# Altium integrated library Altera APEX 20KE.IntLib: 235 symbols (part 38 of 49)
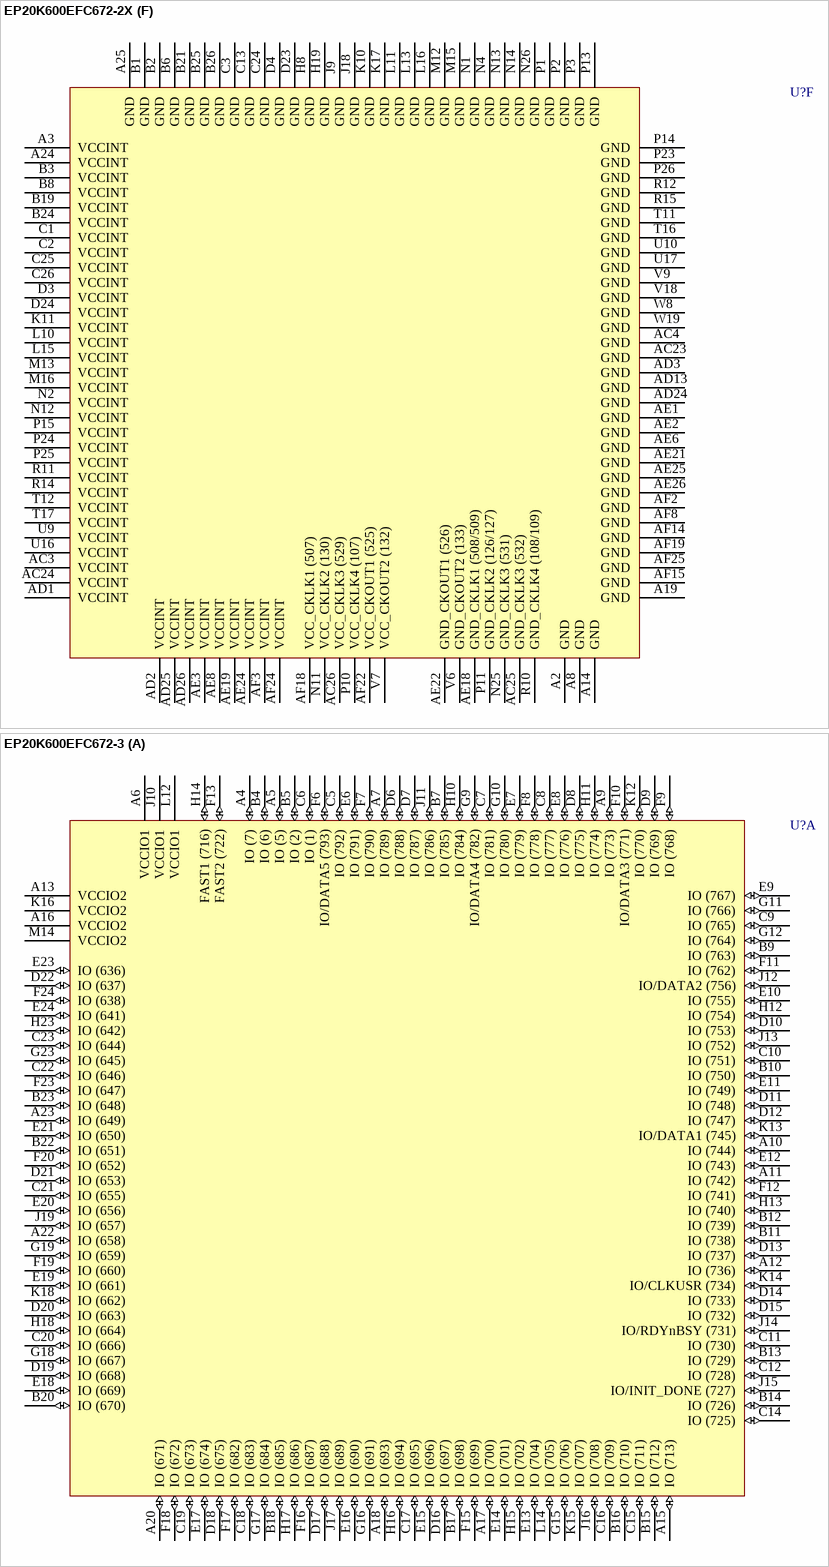
[diagram p436: symbols EP20K600EFC672-2X to EP20K600EFC672-3]

## EP20K600EFC672-3
designator U?
APEX 20K600E PLD, 672-Pin FBGA, Commercial Grade, Speed Grade 3; Published: 17-Jul-2002; LatestRevisionDate: 13-Apr-2006; LatestRevisionNote: IPC-7351 Footprint Added.; DatasheetVersion: Mar-2004; PackageVersion: ver14.1, Oct-2005; PackageReference: FBGA672; Publisher: Altium Limited; PackageDescription: 672-Ball FineLine Ball Grid Array (FBGA672) - Flip Chip; Code_JEDEC: MS-034-AAL-1; ComponentLink1Description: Manufacturer Link; ComponentLink1URL: http://www.altera.com/products/devices/apex/apx-index.html; ComponentLink2Description: Datasheet; ComponentLink2URL: http://www.altera.com/literature/ds/apex.pdf
footprint FBGA672 (BGA, 672-Leads, Body 27x27mm, Pitch 1mm)
3D model EP20K600E-FBGA672T (672-Ball FineLine Ball Grid Array (FBGA672) - Flip Chip)
part A pins: A4 IO (7) (io), A5 IO (5) (io), A6 VCCIO1 (power), A7 IO (789) (io), A9 IO (773) (io), A10 IO (744) (io), A11 IO (742) (io), A12 IO (736) (io), A13 VCCIO2 (power), A15 IO (713) (io), A16 VCCIO2 (power), A17 IO (700) (io), A18 IO (693) (io), A20 IO (671) (io), A22 IO (658) (io), A23 IO (649) (io), B4 IO (6) (io), B5 IO (2) (io), B7 IO (785) (io), B9 IO (763) (io), B10 IO (750) (io), B11 IO (738) (io), B12 IO (739) (io), B13 IO (729) (io), B14 IO (726) (io), B15 IO (712) (io), B16 IO (710) (io), B17 IO (698) (io), B18 IO (685) (io), B20 IO (670) (io), B22 IO (651) (io), B23 IO (648) (io), C5 IO (792) (io), C6 IO (1) (io), C7 IO (781) (io), C8 IO (777) (io), C9 IO (765) (io), C10 IO (751) (io), C11 IO (730) (io), C12 IO (728) (io), C14 IO (725) (io), C15 IO (711) (io), C16 IO (709) (io), C17 IO (695) (io), C18 IO (683) (io), C19 IO (673) (io), C20 IO (666) (io), C21 IO (655) (io), C22 IO (646) (io), C23 IO (644) (io), D6 IO (788) (io), D7 IO (787) (io), D8 IO (775) (io), D9 IO (769) (io), D10 IO (753) (io), D11 IO (748) (io), D12 IO (747) (io), D13 IO (737) (io), D14 IO (733) (io), D15 IO (732) (io), D16 IO (697) (io), D17 IO (688) (io), D18 IO (675) (io), D19 IO (668) (io), D20 IO (663) (io), D21 IO (653) (io), D22 IO (637) (io), E6 IO (791) (io), E7 IO (779) (io), E8 IO (776) (io), E9 IO (767) (io), E10 IO (755) (io), E11 IO (749) (io), E12 IO (743) (io), E13 IO (704) (io), E14 IO (701) (io), E15 IO (696) (io), E16 IO (690) (io), E17 IO (674) (io), E18 IO (669) (io), E19 IO (661) (io), E20 IO (656) (io), E21 IO (650) (io), E23 IO (636) (io), E24 IO (641) (io), F6 IO/DATA5 (793) (io), F7 IO (790) (io), F8 IO (778) (io), F9 IO (768) (io), F10 IO/DATA3 (771) (io), F11 IO (762) (io), F12 IO (741) (io), F13 FAST2 (722) (io), F15 IO (699) (io), F16 IO (687) (io), F17 IO (682) (io), F18 IO (672) (io), F19 IO (660) (io), F20 IO (652) (io), F23 IO (647) (io), F24 IO (638) (io), G9 IO/DATA4 (782) (io), G10 IO (780) (io), G11 IO (766) (io), G12 IO (764) (io), G15 IO (706) (io), G16 IO (691) (io), G17 IO (684) (io), G18 IO (667) (io), G19 IO (659) (io), G23 IO (645) (io), H10 IO (784) (io), H11 IO (774) (io), H12 IO (754) (io), H13 IO (740) (io), H14 FAST1 (716) (io), H15 IO (702) (io), H16 IO (694) (io), H17 IO (686) (io), H18 IO (664) (io), H23 IO (642) (io), J10 VCCIO1 (power), J11 IO (786) (io), J12 IO/DATA2 (756) (io), J13 IO (752) (io), J14 IO/RDYnBSY (731) (io), J15 IO/INIT_DONE (727) (io), J16 IO (708) (io), J17 IO (689) (io), J19 IO (657) (io), K12 IO (770) (io), K13 IO/DATA1 (745) (io), K14 IO/CLKUSR (734) (io), K15 IO (707) (io), K16 VCCIO2 (power), K18 IO (662) (io), L12 VCCIO1 (power), L14 IO (705) (io), M14 VCCIO2 (power)
part B pins: A21 VCCIO3 (power), AA21 IO (408) (io), AA22 IO (447) (io), AA25 IO/LVDSRX01p (539) (io), AA26 IO/LVDSRX01n (540) (io), AB21 IO (415) (io), AB22 IO (421) (io), AB25 IO/LVDSRXINCLK1p (533) (io), AB26 IO/LVDSRXINCLK1n (534) (io), AF20 IO/CLKLK_FB1n (511) (io), AF23 IO/CLKLK_OUT1n (528) (io), D25 IO/LVDSRX16n (587) (io), D26 IO/LVDSRX16p (588) (io), E22 IO (632) (io), E25 IO/LVDSRX15p (584) (io), E26 IO/LVDSRX15n (585) (io), F21 IO (630) (io), F22 IO (623) (io), F25 IO/LVDSRX14n (581) (io), F26 IO/LVDSRX14p (582) (io), G20 IO (625) (io), G21 IO (617) (io), G22 IO (597) (io), G24 IO (610) (io), G25 IO/LVDSRX13p (578) (io), G26 IO/LVDSRX13n (579) (io), H20 IO (599) (io), H21 IO (612) (io), H22 IO (604) (io), H24 IO (586) (io), H25 IO/LVDSRX12n (574) (io), H26 IO/LVDSRX12p (575) (io), J20 IO (593) (io), J21 IO (619) (io), J22 IO (606) (io), J23 IO (535) (io), J24 IO (547) (io), J25 IO/LVDSRX11p (571) (io), J26 IO/LVDSRX11n (572) (io), K19 IO (591) (io), K20 IO (567) (io), K21 IO (554) (io), K22 IO (573) (io), K23 IO (560) (io), K24 IO (580) (io), K25 IO/LVDSRX10n (568) (io), K26 IO/LVDSRX10p (569) (io), L17 VCCIO3 (power), L18 IO/LOCK3 (541) (io), L19 IO (536) (io), L20 IO (482) (io), L21 IO/LOCK1 (501) (io), L22 IO (500) (io), L23 IO (504) (io), L24 IO (505) (io), L25 IO/LVDSRX09p (565) (io), L26 IO/LVDSRX09n (566) (io), M17 IO (484) (io), M18 IO (486) (io), M19 CLK3p (514) (in), M20 IO/CLK3n (513) (io), M21 IO (494) (io), M22 IO (497) (io), M23 IO (499) (io), M24 IO (495) (io), M25 IO/LVDSRX08n (561) (io), M26 IO/LVDSRX08p (562) (io), N15 VCCIO3 (power), N16 IO (462) (io), N17 IO (469) (io), N18 IO (478) (io), N19 IO (480) (io), N22 IO (481) (io), N23 IO (506) (io), N24 VCCIO4 (power), P17 IO (456) (io), P18 IO (468) (io), P19 IO/CLK1n (515) (io), P20 CLK1p (520) (in), P22 IO (475) (io), R16 VCCIO4 (power), R17 IO (452) (io), R18 IO (458) (io), R19 IO (466) (io), R20 IO (474) (io), R21 IO (472) (io), R22 IO (498) (io), R23 IO (488) (io), R24 IO (492) (io), R25 IO/LVDSRX07p (558) (io), R26 IO/LVDSRX07n (559) (io), T18 IO (428) (io), T19 IO (454) (io), T20 IO (460) (io), T21 IO (471) (io), T22 IO (485) (io), T23 IO (487) (io), T24 IO (493) (io), T25 IO/LVDSRX06n (555) (io), T26 IO/LVDSRX06p (556) (io), U18 VCCIO4 (power), U19 IO (417) (io), U20 IO (449) (io), U21 IO (455) (io), U22 IO (473) (io), U23 IO (479) (io), U24 IO (491) (io), U25 IO/LVDSRX05p (552) (io), U26 IO/LVDSRX05n (553) (io), V19 IO (423) (io), V20 IO (434) (io), V21 IO (436) (io), V22 IO (465) (io), V23 IO (467) (io), V24 IO (461) (io), V25 IO/LVDSRX04n (548) (io), V26 IO/LVDSRX04p (549) (io), W21 IO (430) (io), W22 IO (443) (io), W23 IO (453) (io), W24 IO (459) (io), W25 IO/LVDSRX03p (545) (io), W26 IO/LVDSRX03n (546) (io), Y21 IO (441) (io), Y22 IO (410) (io), Y25 IO/LVDSRX02n (542) (io), Y26 IO/LVDSRX02p (543) (io)
part C pins: AA3 IO (252) (io), AA4 IO (241) (io), AA8 IO (270) (io), AA9 IO (267) (io), AA10 IO (286) (io), AA11 IO (291) (io), AA16 IO (355) (io), AA17 IO (369) (io), AA18 IO (374) (io), AA19 IO (382) (io), AA20 IO (394) (io), AA23 IO (403) (io), AA24 IO (404) (io), AB3 IO (248) (io), AB4 IO (240) (io), AB7 IO (256) (io), AB8 IO (260) (io), AB9 IO (276) (io), AB10 IO (289) (io), AB11 IO (287) (io), AB12 IO (304) (io), AB13 IO (340) (io), AB14 IO (342) (io), AB15 IO (349) (io), AB16 IO (352) (io), AB17 IO (366) (io), AB18 IO (371) (io), AB19 IO (391) (io), AB20 IO (390) (io), AB23 IO (405) (io), AB24 IO (395) (io), AC5 IO (242) (io), AC6 IO (259) (io), AC7 IO (263) (io), AC8 IO (271) (io), AC9 IO (278) (io), AC10 IO (290) (io), AC11 IO (344) (io), AC12 IO (336) (io), AC13 IO (334) (io), AC14 IO (337) (io), AC15 IO (347) (io), AC16 IO (357) (io), AC17 IO (359) (io), AC18 IO (375) (io), AC19 IO (388) (io), AC20 IO (392) (io), AC21 IO (397) (io), AC22 IO (396) (io), AD4 IO (251) (io), AD5 IO (254) (io), AD6 IO (255) (io), AD7 IO (264) (io), AD8 IO (273) (io), AD9 IO (285) (io), AD10 IO (338) (io), AD11 IO (311) (io), AD12 IO (312) (io), AD14 IO (330) (io), AD15 IO (332) (io), AD16 IO (333) (io), AD17 IO (335) (io), AD18 IO (345) (io), AD19 IO (354) (io), AD20 IO (370) (io), AD21 IO (383) (io), AD22 IO (385) (io), AD23 IO (393) (io), AE4 IO (246) (io), AE5 IO (253) (io), AE7 IO (266) (io), AE9 IO (292) (io), AE10 IO (299) (io), AE11 IO (309) (io), AE12 IO (314) (io), AE13 IO (316) (io), AE14 IO (329) (io), AE15 IO (331) (io), AE16 IO (368) (io), AE17 IO (378) (io), AF4 IO (249) (io), AF5 IO (261) (io), AF7 IO (268) (io), AF9 IO (294) (io), AF10 IO (305) (io), AF11 IO (297) (io), AF12 IO (315) (io), AF13 VCCIO6 (power), AF16 IO (373) (io), AF17 IO (380) (io), AF21 VCCIO5 (power), R13 VCCIO6 (power), T9 IO (265) (io), T13 IO (302) (io), T14 IO (353) (io), T15 VCCIO5 (power), U11 VCCIO6 (power), U12 IO/LVDSDESKEW (313) (io), U13 IO (307) (io), U14 IO (346) (io), U15 IO (360) (io), V8 IO (262) (io), V10 VCCIO6 (power), V11 IO (288) (io), V12 IO (298) (io), V13 IO (310) (io), V14 IO (341) (io), V15 IO (348) (io), V16 IO (367) (io), V17 VCCIO5 (power), W9 IO (275) (io), W10 IO (277) (io), W11 IO (296) (io), W12 IO (300) (io), W13 IO (308) (io), W14 IO (303) (io), W15 IO (351) (io), W16 IO (358) (io), W17 IO (377) (io), W18 IO (381) (io), W20 IO (386) (io), Y3 IO (250) (io), Y4 IO (245) (io), Y7 IO (257) (io), Y8 IO (272) (io), Y9 IO (274) (io), Y10 IO (279) (io), Y11 IO (293) (io), Y12 IO (301) (io), Y13 FAST4 (320) (io), Y14 FAST3 (326) (io), Y15 IO (343) (io), Y16 IO (356) (io), Y17 IO (372) (io), Y18 IO (379) (io), Y19 IO (384) (io), Y20 IO (389) (io), Y23 IO (399) (io), Y24 IO (400) (io)
part D pins: AA1 IO/LVDSTX14n (186) (io), AA2 IO/LVDSTX14p (187) (io), AA5 IO (224) (io), AA6 IO (230) (io), AA7 IO (235) (io), AB1 IO/LVDSTX15p (189) (io), AB2 IO/LVDSTX15n (190) (io), AB5 IO (222) (io), AB6 IO (237) (io), AC1 IO/LVDSTX16n (192) (io), AC2 IO/LVDSTX16p (193) (io), AF6 VCCIO7 (power), C4 IO (46) (io), D1 IO/LVDSTXINCLK1p (137) (io), D2 IO/LVDSTXINCLK1n (138) (io), D5 IO (31) (io), E1 IO/LVDSTXOUTCLK1n (140) (io), E2 IO/LVDSTXOUTCLK1p (141) (io), E3 IO (13) (io), E4 IO (24) (io), E5 IO (11) (io), F1 IO/LVDSTX01p (144) (io), F2 IO/LVDSTX01n (145) (io), F3 IO (26) (io), F4 IO (20) (io), F5 IO (18) (io), G1 IO/LVDSTX02n (147) (io), G2 IO/LVDSTX02p (148) (io), G3 IO (37) (io), G4 IO (44) (io), G5 IO (33) (io), G6 IO (50) (io), G7 IO (55) (io), G8 IO (39) (io), H1 IO/LVDSTX03p (150) (io), H2 IO/LVDSTX03n (151) (io), H3 IO (64) (io), H4 IO (57) (io), H5 IO (52) (io), H6 IO (58) (io), H7 IO (56) (io), H9 IO (62) (io), J1 IO/LVDSTX04n (153) (io), J2 IO/LVDSTX04p (154) (io), J3 IO (74) (io), J4 IO (68) (io), J5 IO (61) (io), J6 IO (70) (io), J7 IO (72) (io), J8 IO (63) (io), K1 IO/LVDSTX05p (157) (io), K2 IO/LVDSTX05n (158) (io), K3 IO (65) (io), K4 IO (78) (io), K5 IO (69) (io), K6 IO (77) (io), K7 IO (59) (io), K8 IO (75) (io), K9 VCCIO8 (power), L1 IO/LVDSTX06n (160) (io), L2 IO/LVDSTX06p (161) (io), L3 IO (95) (io), L4 IO (94) (io), L5 IO (90) (io), L6 IO (71) (io), L7 IO (85) (io), L8 IO/DATA6 (76) (io), L9 IO (87) (io), M1 IO/LVDSTX07p (163) (io), M2 IO/LVDSTX07n (164) (io), M3 IO (100) (io), M4 IO (111) (io), M5 IO (98) (io), M6 IO (84) (io), M7 IO (88) (io), M8 IO (82) (io), M9 IO/nCS (102) (io), M10 IO/DATA7 (83) (io), M11 VCCIO8 (power), N3 VCCIO8 (power), N5 IO (81) (io), N8 CLK2p (123) (in), N9 IO/CLK2n (118) (io), N10 IO/nRS (96) (io), P4 IO (101) (io), P5 IO (104) (io), P8 IO (91) (io), P9 IO/nWS (89) (io), P12 VCCIO7 (power), R1 IO/LVDSTX08n (166) (io), R2 IO/LVDSTX08p (167) (io), R3 IO (103) (io), R4 IO (97) (io), R5 IO (146) (io), R6 CLK4p (117) (in), R7 IO/CLK4n (116) (io), R8 IO/DEV_OE (131) (io), R9 IO/DEV_CLRn (112) (io), T1 IO/LVDSTX09p (170) (io), T2 IO/LVDSTX09n (171) (io), T3 IO (165) (io), T4 IO (178) (io), T5 IO (152) (io), T6 IO/CS (110) (io), T8 IO/CLKLK_FB2n (114) (io), T10 VCCIO7 (power), U1 IO/LVDSTX10n (173) (io), U2 IO/LVDSTX10p (174) (io), U3 IO (196) (io), U4 IO (185) (io), U5 IO (172) (io), U6 IO/LOCK2 (139) (io), U7 IO/CLKLK_OUT2n (135) (io), V1 IO/LVDSTX11p (176) (io), V2 IO/LVDSTX11n (177) (io), V3 IO (198) (io), V4 IO (211) (io), V5 IO (209) (io), W1 IO/LVDSTX12n (179) (io), W2 IO/LVDSTX12p (180) (io), W3 IO (215) (io), W4 IO (191) (io), W5 IO (202) (io), W6 IO (204) (io), W7 IO/LOCK4 (159) (io), Y1 IO/LVDSTX13p (183) (io), Y2 IO/LVDSTX13n (184) (io), Y5 IO (217) (io), Y6 IO (228) (io)
part E pins: AA12 CONF_DONE (318) (io), AA13 nSTATUS (319) (io), AA14 TCK (327) (in), AA15 TMS (328) (in), AE20 CLKLK_FB1p (512) (in), AE23 CLKLK_OUT1p (527) (out), F14 TRST (714) (in), G13 TDO (723) (out), G14 nCEO (715) (out), N6 DATA0 (121) (in), N7 DCLK (122) (in), N20 MSEL1 (521) (in), N21 MSEL0 (522) (in), P6 nCE (124) (in), P7 TDI (125) (in), P16 CLKLK_ENA (519) (in), P21 nCONFIG (518) (in), T7 CLKLK_OUT2p (134) (out), U8 CLKLK_FB2p (115) (in)
part F pins: A2 GND (power), A3 VCCINT (power), A8 GND (power), A14 GND (power), A19 GND (power), A24 VCCINT (power), A25 GND (power), AC3 VCCINT (power), AC4 GND (power), AC23 GND (power), AC24 VCCINT (power), AC25 GND_CKLK3 (532) (power), AC26 VCC_CKLK3 (529) (power), AD1 VCCINT (power), AD2 VCCINT (power), AD3 GND (power), AD13 GND (power), AD24 GND (power), AD25 VCCINT (power), AD26 VCCINT (power), AE1 GND (power), AE2 GND (power), AE3 VCCINT (power), AE6 GND (power), AE8 VCCINT (power), AE18 GND_CKLK1 (508/509) (power), AE19 VCCINT (power), AE21 GND (power), AE22 GND_CKOUT1 (526) (power), AE24 VCCINT (power), AE25 GND (power), AE26 GND (power), AF2 GND (power), AF3 VCCINT (power), AF8 GND (power), AF14 GND (power), AF15 GND (power), AF18 VCC_CKLK1 (507) (power), AF19 GND (power), AF22 VCC_CKOUT1 (525) (power), AF24 VCCINT (power), AF25 GND (power), B1 GND (power), B2 GND (power), B3 VCCINT (power), B6 GND (power), B8 VCCINT (power), B19 VCCINT (power), B21 GND (power), B24 VCCINT (power), B25 GND (power), B26 GND (power), C1 VCCINT (power), C2 VCCINT (power), C3 GND (power), C13 GND (power), C24 GND (power), C25 VCCINT (power), C26 VCCINT (power), D3 VCCINT (power), D4 GND (power), D23 GND (power), D24 VCCINT (power), H8 GND (power), H19 GND (power), J9 GND (power), J18 GND (power), K10 GND (power), K11 VCCINT (power), K17 GND (power), L10 VCCINT (power), L11 GND (power), L13 GND (power), L15 VCCINT (power), L16 GND (power), M12 GND (power), M13 VCCINT (power), M15 GND (power), M16 VCCINT (power), N1 GND (power), N2 VCCINT (power), N4 GND (power), N11 VCC_CKLK2 (130) (power), N12 VCCINT (power), N13 GND (power), N14 GND (power), N25 GND_CKLK3 (531) (power), N26 GND (power), P1 GND (power), P2 GND (power), P3 GND (power), P10 VCC_CKLK4 (107) (power), P11 GND_CKLK2 (126/127) (power), P13 GND (power), P14 GND (power), P15 VCCINT (power), P23 GND (power), P24 VCCINT (power), P25 VCCINT (power), P26 GND (power), R10 GND_CKLK4 (108/109) (power), R11 VCCINT (power), R12 GND (power), R14 VCCINT (power), R15 GND (power), T11 GND (power), T12 VCCINT (power), T16 GND (power), T17 VCCINT (power), U9 VCCINT (power), U10 GND (power), U16 VCCINT (power), U17 GND (power), V6 GND_CKOUT2 (133) (power), V7 VCC_CKOUT2 (132) (power), V9 GND (power), V18 GND (power), W8 GND (power), W19 GND (power)

## EP20K600EFC672-3N
designator U?
APEX 20K600E PLD, 672-Pin FBGA, Pb-Free, Commercial Grade, Speed Grade 3; Published: 4-Mar-2005; LatestRevisionDate: 13-Apr-2006; LatestRevisionNote: IPC-7351 Footprint Added.; DatasheetVersion: Mar-2004; PackageVersion: ver14.1, Oct-2005; PackageReference: FBGA672; Publisher: Altium Limited; PackageDescription: 672-Ball FineLine Ball Grid Array (FBGA672) - Flip Chip; Code_JEDEC: MS-034-AAL-1; ComponentLink1Description: Manufacturer Link; ComponentLink1URL: http://www.altera.com/products/devices/apex/apx-index.html; ComponentLink2Description: Datasheet; ComponentLink2URL: http://www.altera.com/literature/ds/apex.pdf
footprint FBGA672 (BGA, 672-Leads, Body 27x27mm, Pitch 1mm)
3D model EP20K600E-FBGA672T (672-Ball FineLine Ball Grid Array (FBGA672) - Flip Chip)
part A pins: A4 IO (7) (io), A5 IO (5) (io), A6 VCCIO1 (power), A7 IO (789) (io), A9 IO (773) (io), A10 IO (744) (io), A11 IO (742) (io), A12 IO (736) (io), A13 VCCIO2 (power), A15 IO (713) (io), A16 VCCIO2 (power), A17 IO (700) (io), A18 IO (693) (io), A20 IO (671) (io), A22 IO (658) (io), A23 IO (649) (io), B4 IO (6) (io), B5 IO (2) (io), B7 IO (785) (io), B9 IO (763) (io), B10 IO (750) (io), B11 IO (738) (io), B12 IO (739) (io), B13 IO (729) (io), B14 IO (726) (io), B15 IO (712) (io), B16 IO (710) (io), B17 IO (698) (io), B18 IO (685) (io), B20 IO (670) (io), B22 IO (651) (io), B23 IO (648) (io), C5 IO (792) (io), C6 IO (1) (io), C7 IO (781) (io), C8 IO (777) (io), C9 IO (765) (io), C10 IO (751) (io), C11 IO (730) (io), C12 IO (728) (io), C14 IO (725) (io), C15 IO (711) (io), C16 IO (709) (io), C17 IO (695) (io), C18 IO (683) (io), C19 IO (673) (io), C20 IO (666) (io), C21 IO (655) (io), C22 IO (646) (io), C23 IO (644) (io), D6 IO (788) (io), D7 IO (787) (io), D8 IO (775) (io), D9 IO (769) (io), D10 IO (753) (io), D11 IO (748) (io), D12 IO (747) (io), D13 IO (737) (io), D14 IO (733) (io), D15 IO (732) (io), D16 IO (697) (io), D17 IO (688) (io), D18 IO (675) (io), D19 IO (668) (io), D20 IO (663) (io), D21 IO (653) (io), D22 IO (637) (io), E6 IO (791) (io), E7 IO (779) (io), E8 IO (776) (io), E9 IO (767) (io), E10 IO (755) (io), E11 IO (749) (io), E12 IO (743) (io), E13 IO (704) (io), E14 IO (701) (io), E15 IO (696) (io), E16 IO (690) (io), E17 IO (674) (io), E18 IO (669) (io), E19 IO (661) (io), E20 IO (656) (io), E21 IO (650) (io), E23 IO (636) (io), E24 IO (641) (io), F6 IO/DATA5 (793) (io), F7 IO (790) (io), F8 IO (778) (io), F9 IO (768) (io), F10 IO/DATA3 (771) (io), F11 IO (762) (io), F12 IO (741) (io), F13 FAST2 (722) (io), F15 IO (699) (io), F16 IO (687) (io), F17 IO (682) (io), F18 IO (672) (io), F19 IO (660) (io), F20 IO (652) (io), F23 IO (647) (io), F24 IO (638) (io), G9 IO/DATA4 (782) (io), G10 IO (780) (io), G11 IO (766) (io), G12 IO (764) (io), G15 IO (706) (io), G16 IO (691) (io), G17 IO (684) (io), G18 IO (667) (io), G19 IO (659) (io), G23 IO (645) (io), H10 IO (784) (io), H11 IO (774) (io), H12 IO (754) (io), H13 IO (740) (io), H14 FAST1 (716) (io), H15 IO (702) (io), H16 IO (694) (io), H17 IO (686) (io), H18 IO (664) (io), H23 IO (642) (io), J10 VCCIO1 (power), J11 IO (786) (io), J12 IO/DATA2 (756) (io), J13 IO (752) (io), J14 IO/RDYnBSY (731) (io), J15 IO/INIT_DONE (727) (io), J16 IO (708) (io), J17 IO (689) (io), J19 IO (657) (io), K12 IO (770) (io), K13 IO/DATA1 (745) (io), K14 IO/CLKUSR (734) (io), K15 IO (707) (io), K16 VCCIO2 (power), K18 IO (662) (io), L12 VCCIO1 (power), L14 IO (705) (io), M14 VCCIO2 (power)
part B pins: A21 VCCIO3 (power), AA21 IO (408) (io), AA22 IO (447) (io), AA25 IO/LVDSRX01p (539) (io), AA26 IO/LVDSRX01n (540) (io), AB21 IO (415) (io), AB22 IO (421) (io), AB25 IO/LVDSRXINCLK1p (533) (io), AB26 IO/LVDSRXINCLK1n (534) (io), AF20 IO/CLKLK_FB1n (511) (io), AF23 IO/CLKLK_OUT1n (528) (io), D25 IO/LVDSRX16n (587) (io), D26 IO/LVDSRX16p (588) (io), E22 IO (632) (io), E25 IO/LVDSRX15p (584) (io), E26 IO/LVDSRX15n (585) (io), F21 IO (630) (io), F22 IO (623) (io), F25 IO/LVDSRX14n (581) (io), F26 IO/LVDSRX14p (582) (io), G20 IO (625) (io), G21 IO (617) (io), G22 IO (597) (io), G24 IO (610) (io), G25 IO/LVDSRX13p (578) (io), G26 IO/LVDSRX13n (579) (io), H20 IO (599) (io), H21 IO (612) (io), H22 IO (604) (io), H24 IO (586) (io), H25 IO/LVDSRX12n (574) (io), H26 IO/LVDSRX12p (575) (io), J20 IO (593) (io), J21 IO (619) (io), J22 IO (606) (io), J23 IO (535) (io), J24 IO (547) (io), J25 IO/LVDSRX11p (571) (io), J26 IO/LVDSRX11n (572) (io), K19 IO (591) (io), K20 IO (567) (io), K21 IO (554) (io), K22 IO (573) (io), K23 IO (560) (io), K24 IO (580) (io), K25 IO/LVDSRX10n (568) (io), K26 IO/LVDSRX10p (569) (io), L17 VCCIO3 (power), L18 IO/LOCK3 (541) (io), L19 IO (536) (io), L20 IO (482) (io), L21 IO/LOCK1 (501) (io), L22 IO (500) (io), L23 IO (504) (io), L24 IO (505) (io), L25 IO/LVDSRX09p (565) (io), L26 IO/LVDSRX09n (566) (io), M17 IO (484) (io), M18 IO (486) (io), M19 CLK3p (514) (in), M20 IO/CLK3n (513) (io), M21 IO (494) (io), M22 IO (497) (io), M23 IO (499) (io), M24 IO (495) (io), M25 IO/LVDSRX08n (561) (io), M26 IO/LVDSRX08p (562) (io), N15 VCCIO3 (power), N16 IO (462) (io), N17 IO (469) (io), N18 IO (478) (io), N19 IO (480) (io), N22 IO (481) (io), N23 IO (506) (io), N24 VCCIO4 (power), P17 IO (456) (io), P18 IO (468) (io), P19 IO/CLK1n (515) (io), P20 CLK1p (520) (in), P22 IO (475) (io), R16 VCCIO4 (power), R17 IO (452) (io), R18 IO (458) (io), R19 IO (466) (io), R20 IO (474) (io), R21 IO (472) (io), R22 IO (498) (io), R23 IO (488) (io), R24 IO (492) (io), R25 IO/LVDSRX07p (558) (io), R26 IO/LVDSRX07n (559) (io), T18 IO (428) (io), T19 IO (454) (io), T20 IO (460) (io), T21 IO (471) (io), T22 IO (485) (io), T23 IO (487) (io), T24 IO (493) (io), T25 IO/LVDSRX06n (555) (io), T26 IO/LVDSRX06p (556) (io), U18 VCCIO4 (power), U19 IO (417) (io), U20 IO (449) (io), U21 IO (455) (io), U22 IO (473) (io), U23 IO (479) (io), U24 IO (491) (io), U25 IO/LVDSRX05p (552) (io), U26 IO/LVDSRX05n (553) (io), V19 IO (423) (io), V20 IO (434) (io), V21 IO (436) (io), V22 IO (465) (io), V23 IO (467) (io), V24 IO (461) (io), V25 IO/LVDSRX04n (548) (io), V26 IO/LVDSRX04p (549) (io), W21 IO (430) (io), W22 IO (443) (io), W23 IO (453) (io), W24 IO (459) (io), W25 IO/LVDSRX03p (545) (io), W26 IO/LVDSRX03n (546) (io), Y21 IO (441) (io), Y22 IO (410) (io), Y25 IO/LVDSRX02n (542) (io), Y26 IO/LVDSRX02p (543) (io)
part C pins: AA3 IO (252) (io), AA4 IO (241) (io), AA8 IO (270) (io), AA9 IO (267) (io), AA10 IO (286) (io), AA11 IO (291) (io), AA16 IO (355) (io), AA17 IO (369) (io), AA18 IO (374) (io), AA19 IO (382) (io), AA20 IO (394) (io), AA23 IO (403) (io), AA24 IO (404) (io), AB3 IO (248) (io), AB4 IO (240) (io), AB7 IO (256) (io), AB8 IO (260) (io), AB9 IO (276) (io), AB10 IO (289) (io), AB11 IO (287) (io), AB12 IO (304) (io), AB13 IO (340) (io), AB14 IO (342) (io), AB15 IO (349) (io), AB16 IO (352) (io), AB17 IO (366) (io), AB18 IO (371) (io), AB19 IO (391) (io), AB20 IO (390) (io), AB23 IO (405) (io), AB24 IO (395) (io), AC5 IO (242) (io), AC6 IO (259) (io), AC7 IO (263) (io), AC8 IO (271) (io), AC9 IO (278) (io), AC10 IO (290) (io), AC11 IO (344) (io), AC12 IO (336) (io), AC13 IO (334) (io), AC14 IO (337) (io), AC15 IO (347) (io), AC16 IO (357) (io), AC17 IO (359) (io), AC18 IO (375) (io), AC19 IO (388) (io), AC20 IO (392) (io), AC21 IO (397) (io), AC22 IO (396) (io), AD4 IO (251) (io), AD5 IO (254) (io), AD6 IO (255) (io), AD7 IO (264) (io), AD8 IO (273) (io), AD9 IO (285) (io), AD10 IO (338) (io), AD11 IO (311) (io), AD12 IO (312) (io), AD14 IO (330) (io), AD15 IO (332) (io), AD16 IO (333) (io), AD17 IO (335) (io), AD18 IO (345) (io), AD19 IO (354) (io), AD20 IO (370) (io), AD21 IO (383) (io), AD22 IO (385) (io), AD23 IO (393) (io), AE4 IO (246) (io), AE5 IO (253) (io), AE7 IO (266) (io), AE9 IO (292) (io), AE10 IO (299) (io), AE11 IO (309) (io), AE12 IO (314) (io), AE13 IO (316) (io), AE14 IO (329) (io), AE15 IO (331) (io), AE16 IO (368) (io), AE17 IO (378) (io), AF4 IO (249) (io), AF5 IO (261) (io), AF7 IO (268) (io), AF9 IO (294) (io), AF10 IO (305) (io), AF11 IO (297) (io), AF12 IO (315) (io), AF13 VCCIO6 (power), AF16 IO (373) (io), AF17 IO (380) (io), AF21 VCCIO5 (power), R13 VCCIO6 (power), T9 IO (265) (io), T13 IO (302) (io), T14 IO (353) (io), T15 VCCIO5 (power), U11 VCCIO6 (power), U12 IO/LVDSDESKEW (313) (io), U13 IO (307) (io), U14 IO (346) (io), U15 IO (360) (io), V8 IO (262) (io), V10 VCCIO6 (power), V11 IO (288) (io), V12 IO (298) (io), V13 IO (310) (io), V14 IO (341) (io), V15 IO (348) (io), V16 IO (367) (io), V17 VCCIO5 (power), W9 IO (275) (io), W10 IO (277) (io), W11 IO (296) (io), W12 IO (300) (io), W13 IO (308) (io), W14 IO (303) (io), W15 IO (351) (io), W16 IO (358) (io), W17 IO (377) (io), W18 IO (381) (io), W20 IO (386) (io), Y3 IO (250) (io), Y4 IO (245) (io), Y7 IO (257) (io), Y8 IO (272) (io), Y9 IO (274) (io), Y10 IO (279) (io), Y11 IO (293) (io), Y12 IO (301) (io), Y13 FAST4 (320) (io), Y14 FAST3 (326) (io), Y15 IO (343) (io), Y16 IO (356) (io), Y17 IO (372) (io), Y18 IO (379) (io), Y19 IO (384) (io), Y20 IO (389) (io), Y23 IO (399) (io), Y24 IO (400) (io)
part D pins: AA1 IO/LVDSTX14n (186) (io), AA2 IO/LVDSTX14p (187) (io), AA5 IO (224) (io), AA6 IO (230) (io), AA7 IO (235) (io), AB1 IO/LVDSTX15p (189) (io), AB2 IO/LVDSTX15n (190) (io), AB5 IO (222) (io), AB6 IO (237) (io), AC1 IO/LVDSTX16n (192) (io), AC2 IO/LVDSTX16p (193) (io), AF6 VCCIO7 (power), C4 IO (46) (io), D1 IO/LVDSTXINCLK1p (137) (io), D2 IO/LVDSTXINCLK1n (138) (io), D5 IO (31) (io), E1 IO/LVDSTXOUTCLK1n (140) (io), E2 IO/LVDSTXOUTCLK1p (141) (io), E3 IO (13) (io), E4 IO (24) (io), E5 IO (11) (io), F1 IO/LVDSTX01p (144) (io), F2 IO/LVDSTX01n (145) (io), F3 IO (26) (io), F4 IO (20) (io), F5 IO (18) (io), G1 IO/LVDSTX02n (147) (io), G2 IO/LVDSTX02p (148) (io), G3 IO (37) (io), G4 IO (44) (io), G5 IO (33) (io), G6 IO (50) (io), G7 IO (55) (io), G8 IO (39) (io), H1 IO/LVDSTX03p (150) (io), H2 IO/LVDSTX03n (151) (io), H3 IO (64) (io), H4 IO (57) (io), H5 IO (52) (io), H6 IO (58) (io), H7 IO (56) (io), H9 IO (62) (io), J1 IO/LVDSTX04n (153) (io), J2 IO/LVDSTX04p (154) (io), J3 IO (74) (io), J4 IO (68) (io), J5 IO (61) (io), J6 IO (70) (io), J7 IO (72) (io), J8 IO (63) (io), K1 IO/LVDSTX05p (157) (io), K2 IO/LVDSTX05n (158) (io), K3 IO (65) (io), K4 IO (78) (io), K5 IO (69) (io), K6 IO (77) (io), K7 IO (59) (io), K8 IO (75) (io), K9 VCCIO8 (power), L1 IO/LVDSTX06n (160) (io), L2 IO/LVDSTX06p (161) (io), L3 IO (95) (io), L4 IO (94) (io), L5 IO (90) (io), L6 IO (71) (io), L7 IO (85) (io), L8 IO/DATA6 (76) (io), L9 IO (87) (io), M1 IO/LVDSTX07p (163) (io), M2 IO/LVDSTX07n (164) (io), M3 IO (100) (io), M4 IO (111) (io), M5 IO (98) (io), M6 IO (84) (io), M7 IO (88) (io), M8 IO (82) (io), M9 IO/nCS (102) (io), M10 IO/DATA7 (83) (io), M11 VCCIO8 (power), N3 VCCIO8 (power), N5 IO (81) (io), N8 CLK2p (123) (in), N9 IO/CLK2n (118) (io), N10 IO/nRS (96) (io), P4 IO (101) (io), P5 IO (104) (io), P8 IO (91) (io), P9 IO/nWS (89) (io), P12 VCCIO7 (power), R1 IO/LVDSTX08n (166) (io), R2 IO/LVDSTX08p (167) (io), R3 IO (103) (io), R4 IO (97) (io), R5 IO (146) (io), R6 CLK4p (117) (in), R7 IO/CLK4n (116) (io), R8 IO/DEV_OE (131) (io), R9 IO/DEV_CLRn (112) (io), T1 IO/LVDSTX09p (170) (io), T2 IO/LVDSTX09n (171) (io), T3 IO (165) (io), T4 IO (178) (io), T5 IO (152) (io), T6 IO/CS (110) (io), T8 IO/CLKLK_FB2n (114) (io), T10 VCCIO7 (power), U1 IO/LVDSTX10n (173) (io), U2 IO/LVDSTX10p (174) (io), U3 IO (196) (io), U4 IO (185) (io), U5 IO (172) (io), U6 IO/LOCK2 (139) (io), U7 IO/CLKLK_OUT2n (135) (io), V1 IO/LVDSTX11p (176) (io), V2 IO/LVDSTX11n (177) (io), V3 IO (198) (io), V4 IO (211) (io), V5 IO (209) (io), W1 IO/LVDSTX12n (179) (io), W2 IO/LVDSTX12p (180) (io), W3 IO (215) (io), W4 IO (191) (io), W5 IO (202) (io), W6 IO (204) (io), W7 IO/LOCK4 (159) (io), Y1 IO/LVDSTX13p (183) (io), Y2 IO/LVDSTX13n (184) (io), Y5 IO (217) (io), Y6 IO (228) (io)
part E pins: AA12 CONF_DONE (318) (io), AA13 nSTATUS (319) (io), AA14 TCK (327) (in), AA15 TMS (328) (in), AE20 CLKLK_FB1p (512) (in), AE23 CLKLK_OUT1p (527) (out), F14 TRST (714) (in), G13 TDO (723) (out), G14 nCEO (715) (out), N6 DATA0 (121) (in), N7 DCLK (122) (in), N20 MSEL1 (521) (in), N21 MSEL0 (522) (in), P6 nCE (124) (in), P7 TDI (125) (in), P16 CLKLK_ENA (519) (in), P21 nCONFIG (518) (in), T7 CLKLK_OUT2p (134) (out), U8 CLKLK_FB2p (115) (in)
part F pins: A2 GND (power), A3 VCCINT (power), A8 GND (power), A14 GND (power), A19 GND (power), A24 VCCINT (power), A25 GND (power), AC3 VCCINT (power), AC4 GND (power), AC23 GND (power), AC24 VCCINT (power), AC25 GND_CKLK3 (532) (power), AC26 VCC_CKLK3 (529) (power), AD1 VCCINT (power), AD2 VCCINT (power), AD3 GND (power), AD13 GND (power), AD24 GND (power), AD25 VCCINT (power), AD26 VCCINT (power), AE1 GND (power), AE2 GND (power), AE3 VCCINT (power), AE6 GND (power), AE8 VCCINT (power), AE18 GND_CKLK1 (508/509) (power), AE19 VCCINT (power), AE21 GND (power), AE22 GND_CKOUT1 (526) (power), AE24 VCCINT (power), AE25 GND (power), AE26 GND (power), AF2 GND (power), AF3 VCCINT (power), AF8 GND (power), AF14 GND (power), AF15 GND (power), AF18 VCC_CKLK1 (507) (power), AF19 GND (power), AF22 VCC_CKOUT1 (525) (power), AF24 VCCINT (power), AF25 GND (power), B1 GND (power), B2 GND (power), B3 VCCINT (power), B6 GND (power), B8 VCCINT (power), B19 VCCINT (power), B21 GND (power), B24 VCCINT (power), B25 GND (power), B26 GND (power), C1 VCCINT (power), C2 VCCINT (power), C3 GND (power), C13 GND (power), C24 GND (power), C25 VCCINT (power), C26 VCCINT (power), D3 VCCINT (power), D4 GND (power), D23 GND (power), D24 VCCINT (power), H8 GND (power), H19 GND (power), J9 GND (power), J18 GND (power), K10 GND (power), K11 VCCINT (power), K17 GND (power), L10 VCCINT (power), L11 GND (power), L13 GND (power), L15 VCCINT (power), L16 GND (power), M12 GND (power), M13 VCCINT (power), M15 GND (power), M16 VCCINT (power), N1 GND (power), N2 VCCINT (power), N4 GND (power), N11 VCC_CKLK2 (130) (power), N12 VCCINT (power), N13 GND (power), N14 GND (power), N25 GND_CKLK3 (531) (power), N26 GND (power), P1 GND (power), P2 GND (power), P3 GND (power), P10 VCC_CKLK4 (107) (power), P11 GND_CKLK2 (126/127) (power), P13 GND (power), P14 GND (power), P15 VCCINT (power), P23 GND (power), P24 VCCINT (power), P25 VCCINT (power), P26 GND (power), R10 GND_CKLK4 (108/109) (power), R11 VCCINT (power), R12 GND (power), R14 VCCINT (power), R15 GND (power), T11 GND (power), T12 VCCINT (power), T16 GND (power), T17 VCCINT (power), U9 VCCINT (power), U10 GND (power), U16 VCCINT (power), U17 GND (power), V6 GND_CKOUT2 (133) (power), V7 VCC_CKOUT2 (132) (power), V9 GND (power), V18 GND (power), W8 GND (power), W19 GND (power)

## EP20K600EFI672-2X
designator U?
APEX 20K600E PLD with PLLs and LVDS, 672-Pin FBGA, Industrial Grade, Speed Grade 2; Published: 17-Jul-2002; LatestRevisionDate: 13-Apr-2006; LatestRevisionNote: IPC-7351 Footprint Added.; DatasheetVersion: Mar-2004; PackageVersion: ver14.1, Oct-2005; PackageReference: FBGA672; Publisher: Altium Limited; PackageDescription: 672-Ball FineLine Ball Grid Array (FBGA672) - Flip Chip; Code_JEDEC: MS-034-AAL-1; ComponentLink1Description: Manufacturer Link; ComponentLink1URL: http://www.altera.com/products/devices/apex/apx-index.html; ComponentLink2Description: Datasheet; ComponentLink2URL: http://www.altera.com/literature/ds/apex.pdf
footprint FBGA672 (BGA, 672-Leads, Body 27x27mm, Pitch 1mm)
3D model EP20K600E-FBGA672T (672-Ball FineLine Ball Grid Array (FBGA672) - Flip Chip)
part A pins: A4 IO (7) (io), A5 IO (5) (io), A6 VCCIO1 (power), A7 IO (789) (io), A9 IO (773) (io), A10 IO (744) (io), A11 IO (742) (io), A12 IO (736) (io), A13 VCCIO2 (power), A15 IO (713) (io), A16 VCCIO2 (power), A17 IO (700) (io), A18 IO (693) (io), A20 IO (671) (io), A22 IO (658) (io), A23 IO (649) (io), B4 IO (6) (io), B5 IO (2) (io), B7 IO (785) (io), B9 IO (763) (io), B10 IO (750) (io), B11 IO (738) (io), B12 IO (739) (io), B13 IO (729) (io), B14 IO (726) (io), B15 IO (712) (io), B16 IO (710) (io), B17 IO (698) (io), B18 IO (685) (io), B20 IO (670) (io), B22 IO (651) (io), B23 IO (648) (io), C5 IO (792) (io), C6 IO (1) (io), C7 IO (781) (io), C8 IO (777) (io), C9 IO (765) (io), C10 IO (751) (io), C11 IO (730) (io), C12 IO (728) (io), C14 IO (725) (io), C15 IO (711) (io), C16 IO (709) (io), C17 IO (695) (io), C18 IO (683) (io), C19 IO (673) (io), C20 IO (666) (io), C21 IO (655) (io), C22 IO (646) (io), C23 IO (644) (io), D6 IO (788) (io), D7 IO (787) (io), D8 IO (775) (io), D9 IO (769) (io), D10 IO (753) (io), D11 IO (748) (io), D12 IO (747) (io), D13 IO (737) (io), D14 IO (733) (io), D15 IO (732) (io), D16 IO (697) (io), D17 IO (688) (io), D18 IO (675) (io), D19 IO (668) (io), D20 IO (663) (io), D21 IO (653) (io), D22 IO (637) (io), E6 IO (791) (io), E7 IO (779) (io), E8 IO (776) (io), E9 IO (767) (io), E10 IO (755) (io), E11 IO (749) (io), E12 IO (743) (io), E13 IO (704) (io), E14 IO (701) (io), E15 IO (696) (io), E16 IO (690) (io), E17 IO (674) (io), E18 IO (669) (io), E19 IO (661) (io), E20 IO (656) (io), E21 IO (650) (io), E23 IO (636) (io), E24 IO (641) (io), F6 IO/DATA5 (793) (io), F7 IO (790) (io), F8 IO (778) (io), F9 IO (768) (io), F10 IO/DATA3 (771) (io), F11 IO (762) (io), F12 IO (741) (io), F13 FAST2 (722) (io), F15 IO (699) (io), F16 IO (687) (io), F17 IO (682) (io), F18 IO (672) (io), F19 IO (660) (io), F20 IO (652) (io), F23 IO (647) (io), F24 IO (638) (io), G9 IO/DATA4 (782) (io), G10 IO (780) (io), G11 IO (766) (io), G12 IO (764) (io), G15 IO (706) (io), G16 IO (691) (io), G17 IO (684) (io), G18 IO (667) (io), G19 IO (659) (io), G23 IO (645) (io), H10 IO (784) (io), H11 IO (774) (io), H12 IO (754) (io), H13 IO (740) (io), H14 FAST1 (716) (io), H15 IO (702) (io), H16 IO (694) (io), H17 IO (686) (io), H18 IO (664) (io), H23 IO (642) (io), J10 VCCIO1 (power), J11 IO (786) (io), J12 IO/DATA2 (756) (io), J13 IO (752) (io), J14 IO/RDYnBSY (731) (io), J15 IO/INIT_DONE (727) (io), J16 IO (708) (io), J17 IO (689) (io), J19 IO (657) (io), K12 IO (770) (io), K13 IO/DATA1 (745) (io), K14 IO/CLKUSR (734) (io), K15 IO (707) (io), K16 VCCIO2 (power), K18 IO (662) (io), L12 VCCIO1 (power), L14 IO (705) (io), M14 VCCIO2 (power)
part B pins: A21 VCCIO3 (power), AA21 IO (408) (io), AA22 IO (447) (io), AA25 IO/LVDSRX01p (539) (io), AA26 IO/LVDSRX01n (540) (io), AB21 IO (415) (io), AB22 IO (421) (io), AB25 IO/LVDSRXINCLK1p (533) (io), AB26 IO/LVDSRXINCLK1n (534) (io), AF20 IO/CLKLK_FB1n (511) (io), AF23 IO/CLKLK_OUT1n (528) (io), D25 IO/LVDSRX16n (587) (io), D26 IO/LVDSRX16p (588) (io), E22 IO (632) (io), E25 IO/LVDSRX15p (584) (io), E26 IO/LVDSRX15n (585) (io), F21 IO (630) (io), F22 IO (623) (io), F25 IO/LVDSRX14n (581) (io), F26 IO/LVDSRX14p (582) (io), G20 IO (625) (io), G21 IO (617) (io), G22 IO (597) (io), G24 IO (610) (io), G25 IO/LVDSRX13p (578) (io), G26 IO/LVDSRX13n (579) (io), H20 IO (599) (io), H21 IO (612) (io), H22 IO (604) (io), H24 IO (586) (io), H25 IO/LVDSRX12n (574) (io), H26 IO/LVDSRX12p (575) (io), J20 IO (593) (io), J21 IO (619) (io), J22 IO (606) (io), J23 IO (535) (io), J24 IO (547) (io), J25 IO/LVDSRX11p (571) (io), J26 IO/LVDSRX11n (572) (io), K19 IO (591) (io), K20 IO (567) (io), K21 IO (554) (io), K22 IO (573) (io), K23 IO (560) (io), K24 IO (580) (io), K25 IO/LVDSRX10n (568) (io), K26 IO/LVDSRX10p (569) (io), L17 VCCIO3 (power), L18 IO/LOCK3 (541) (io), L19 IO (536) (io), L20 IO (482) (io), L21 IO/LOCK1 (501) (io), L22 IO (500) (io), L23 IO (504) (io), L24 IO (505) (io), L25 IO/LVDSRX09p (565) (io), L26 IO/LVDSRX09n (566) (io), M17 IO (484) (io), M18 IO (486) (io), M19 CLK3p (514) (in), M20 IO/CLK3n (513) (io), M21 IO (494) (io), M22 IO (497) (io), M23 IO (499) (io), M24 IO (495) (io), M25 IO/LVDSRX08n (561) (io), M26 IO/LVDSRX08p (562) (io), N15 VCCIO3 (power), N16 IO (462) (io), N17 IO (469) (io), N18 IO (478) (io), N19 IO (480) (io), N22 IO (481) (io), N23 IO (506) (io), N24 VCCIO4 (power), P17 IO (456) (io), P18 IO (468) (io), P19 IO/CLK1n (515) (io), P20 CLK1p (520) (in), P22 IO (475) (io), R16 VCCIO4 (power), R17 IO (452) (io), R18 IO (458) (io), R19 IO (466) (io), R20 IO (474) (io), R21 IO (472) (io), R22 IO (498) (io), R23 IO (488) (io), R24 IO (492) (io), R25 IO/LVDSRX07p (558) (io), R26 IO/LVDSRX07n (559) (io), T18 IO (428) (io), T19 IO (454) (io), T20 IO (460) (io), T21 IO (471) (io), T22 IO (485) (io), T23 IO (487) (io), T24 IO (493) (io), T25 IO/LVDSRX06n (555) (io), T26 IO/LVDSRX06p (556) (io), U18 VCCIO4 (power), U19 IO (417) (io), U20 IO (449) (io), U21 IO (455) (io), U22 IO (473) (io), U23 IO (479) (io), U24 IO (491) (io), U25 IO/LVDSRX05p (552) (io), U26 IO/LVDSRX05n (553) (io), V19 IO (423) (io), V20 IO (434) (io), V21 IO (436) (io), V22 IO (465) (io), V23 IO (467) (io), V24 IO (461) (io), V25 IO/LVDSRX04n (548) (io), V26 IO/LVDSRX04p (549) (io), W21 IO (430) (io), W22 IO (443) (io), W23 IO (453) (io), W24 IO (459) (io), W25 IO/LVDSRX03p (545) (io), W26 IO/LVDSRX03n (546) (io), Y21 IO (441) (io), Y22 IO (410) (io), Y25 IO/LVDSRX02n (542) (io), Y26 IO/LVDSRX02p (543) (io)
part C pins: AA3 IO (252) (io), AA4 IO (241) (io), AA8 IO (270) (io), AA9 IO (267) (io), AA10 IO (286) (io), AA11 IO (291) (io), AA16 IO (355) (io), AA17 IO (369) (io), AA18 IO (374) (io), AA19 IO (382) (io), AA20 IO (394) (io), AA23 IO (403) (io), AA24 IO (404) (io), AB3 IO (248) (io), AB4 IO (240) (io), AB7 IO (256) (io), AB8 IO (260) (io), AB9 IO (276) (io), AB10 IO (289) (io), AB11 IO (287) (io), AB12 IO (304) (io), AB13 IO (340) (io), AB14 IO (342) (io), AB15 IO (349) (io), AB16 IO (352) (io), AB17 IO (366) (io), AB18 IO (371) (io), AB19 IO (391) (io), AB20 IO (390) (io), AB23 IO (405) (io), AB24 IO (395) (io), AC5 IO (242) (io), AC6 IO (259) (io), AC7 IO (263) (io), AC8 IO (271) (io), AC9 IO (278) (io), AC10 IO (290) (io), AC11 IO (344) (io), AC12 IO (336) (io), AC13 IO (334) (io), AC14 IO (337) (io), AC15 IO (347) (io), AC16 IO (357) (io), AC17 IO (359) (io), AC18 IO (375) (io), AC19 IO (388) (io), AC20 IO (392) (io), AC21 IO (397) (io), AC22 IO (396) (io), AD4 IO (251) (io), AD5 IO (254) (io), AD6 IO (255) (io), AD7 IO (264) (io), AD8 IO (273) (io), AD9 IO (285) (io), AD10 IO (338) (io), AD11 IO (311) (io), AD12 IO (312) (io), AD14 IO (330) (io), AD15 IO (332) (io), AD16 IO (333) (io), AD17 IO (335) (io), AD18 IO (345) (io), AD19 IO (354) (io), AD20 IO (370) (io), AD21 IO (383) (io), AD22 IO (385) (io), AD23 IO (393) (io), AE4 IO (246) (io), AE5 IO (253) (io), AE7 IO (266) (io), AE9 IO (292) (io), AE10 IO (299) (io), AE11 IO (309) (io), AE12 IO (314) (io), AE13 IO (316) (io), AE14 IO (329) (io), AE15 IO (331) (io), AE16 IO (368) (io), AE17 IO (378) (io), AF4 IO (249) (io), AF5 IO (261) (io), AF7 IO (268) (io), AF9 IO (294) (io), AF10 IO (305) (io), AF11 IO (297) (io), AF12 IO (315) (io), AF13 VCCIO6 (power), AF16 IO (373) (io), AF17 IO (380) (io), AF21 VCCIO5 (power), R13 VCCIO6 (power), T9 IO (265) (io), T13 IO (302) (io), T14 IO (353) (io), T15 VCCIO5 (power), U11 VCCIO6 (power), U12 IO/LVDSDESKEW (313) (io), U13 IO (307) (io), U14 IO (346) (io), U15 IO (360) (io), V8 IO (262) (io), V10 VCCIO6 (power), V11 IO (288) (io), V12 IO (298) (io), V13 IO (310) (io), V14 IO (341) (io), V15 IO (348) (io), V16 IO (367) (io), V17 VCCIO5 (power), W9 IO (275) (io), W10 IO (277) (io), W11 IO (296) (io), W12 IO (300) (io), W13 IO (308) (io), W14 IO (303) (io), W15 IO (351) (io), W16 IO (358) (io), W17 IO (377) (io), W18 IO (381) (io), W20 IO (386) (io), Y3 IO (250) (io), Y4 IO (245) (io), Y7 IO (257) (io), Y8 IO (272) (io), Y9 IO (274) (io), Y10 IO (279) (io), Y11 IO (293) (io), Y12 IO (301) (io), Y13 FAST4 (320) (io), Y14 FAST3 (326) (io), Y15 IO (343) (io), Y16 IO (356) (io), Y17 IO (372) (io), Y18 IO (379) (io), Y19 IO (384) (io), Y20 IO (389) (io), Y23 IO (399) (io), Y24 IO (400) (io)
part D pins: AA1 IO/LVDSTX14n (186) (io), AA2 IO/LVDSTX14p (187) (io), AA5 IO (224) (io), AA6 IO (230) (io), AA7 IO (235) (io), AB1 IO/LVDSTX15p (189) (io), AB2 IO/LVDSTX15n (190) (io), AB5 IO (222) (io), AB6 IO (237) (io), AC1 IO/LVDSTX16n (192) (io), AC2 IO/LVDSTX16p (193) (io), AF6 VCCIO7 (power), C4 IO (46) (io), D1 IO/LVDSTXINCLK1p (137) (io), D2 IO/LVDSTXINCLK1n (138) (io), D5 IO (31) (io), E1 IO/LVDSTXOUTCLK1n (140) (io), E2 IO/LVDSTXOUTCLK1p (141) (io), E3 IO (13) (io), E4 IO (24) (io), E5 IO (11) (io), F1 IO/LVDSTX01p (144) (io), F2 IO/LVDSTX01n (145) (io), F3 IO (26) (io), F4 IO (20) (io), F5 IO (18) (io), G1 IO/LVDSTX02n (147) (io), G2 IO/LVDSTX02p (148) (io), G3 IO (37) (io), G4 IO (44) (io), G5 IO (33) (io), G6 IO (50) (io), G7 IO (55) (io), G8 IO (39) (io), H1 IO/LVDSTX03p (150) (io), H2 IO/LVDSTX03n (151) (io), H3 IO (64) (io), H4 IO (57) (io), H5 IO (52) (io), H6 IO (58) (io), H7 IO (56) (io), H9 IO (62) (io), J1 IO/LVDSTX04n (153) (io), J2 IO/LVDSTX04p (154) (io), J3 IO (74) (io), J4 IO (68) (io), J5 IO (61) (io), J6 IO (70) (io), J7 IO (72) (io), J8 IO (63) (io), K1 IO/LVDSTX05p (157) (io), K2 IO/LVDSTX05n (158) (io), K3 IO (65) (io), K4 IO (78) (io), K5 IO (69) (io), K6 IO (77) (io), K7 IO (59) (io), K8 IO (75) (io), K9 VCCIO8 (power), L1 IO/LVDSTX06n (160) (io), L2 IO/LVDSTX06p (161) (io), L3 IO (95) (io), L4 IO (94) (io), L5 IO (90) (io), L6 IO (71) (io), L7 IO (85) (io), L8 IO/DATA6 (76) (io), L9 IO (87) (io), M1 IO/LVDSTX07p (163) (io), M2 IO/LVDSTX07n (164) (io), M3 IO (100) (io), M4 IO (111) (io), M5 IO (98) (io), M6 IO (84) (io), M7 IO (88) (io), M8 IO (82) (io), M9 IO/nCS (102) (io), M10 IO/DATA7 (83) (io), M11 VCCIO8 (power), N3 VCCIO8 (power), N5 IO (81) (io), N8 CLK2p (123) (in), N9 IO/CLK2n (118) (io), N10 IO/nRS (96) (io), P4 IO (101) (io), P5 IO (104) (io), P8 IO (91) (io), P9 IO/nWS (89) (io), P12 VCCIO7 (power), R1 IO/LVDSTX08n (166) (io), R2 IO/LVDSTX08p (167) (io), R3 IO (103) (io), R4 IO (97) (io), R5 IO (146) (io), R6 CLK4p (117) (in), R7 IO/CLK4n (116) (io), R8 IO/DEV_OE (131) (io), R9 IO/DEV_CLRn (112) (io), T1 IO/LVDSTX09p (170) (io), T2 IO/LVDSTX09n (171) (io), T3 IO (165) (io), T4 IO (178) (io), T5 IO (152) (io), T6 IO/CS (110) (io), T8 IO/CLKLK_FB2n (114) (io), T10 VCCIO7 (power), U1 IO/LVDSTX10n (173) (io), U2 IO/LVDSTX10p (174) (io), U3 IO (196) (io), U4 IO (185) (io), U5 IO (172) (io), U6 IO/LOCK2 (139) (io), U7 IO/CLKLK_OUT2n (135) (io), V1 IO/LVDSTX11p (176) (io), V2 IO/LVDSTX11n (177) (io), V3 IO (198) (io), V4 IO (211) (io), V5 IO (209) (io), W1 IO/LVDSTX12n (179) (io), W2 IO/LVDSTX12p (180) (io), W3 IO (215) (io), W4 IO (191) (io), W5 IO (202) (io), W6 IO (204) (io), W7 IO/LOCK4 (159) (io), Y1 IO/LVDSTX13p (183) (io), Y2 IO/LVDSTX13n (184) (io), Y5 IO (217) (io), Y6 IO (228) (io)
part E pins: AA12 CONF_DONE (318) (io), AA13 nSTATUS (319) (io), AA14 TCK (327) (in), AA15 TMS (328) (in), AE20 CLKLK_FB1p (512) (in), AE23 CLKLK_OUT1p (527) (out), F14 TRST (714) (in), G13 TDO (723) (out), G14 nCEO (715) (out), N6 DATA0 (121) (in), N7 DCLK (122) (in), N20 MSEL1 (521) (in), N21 MSEL0 (522) (in), P6 nCE (124) (in), P7 TDI (125) (in), P16 CLKLK_ENA (519) (in), P21 nCONFIG (518) (in), T7 CLKLK_OUT2p (134) (out), U8 CLKLK_FB2p (115) (in)
part F pins: A2 GND (power), A3 VCCINT (power), A8 GND (power), A14 GND (power), A19 GND (power), A24 VCCINT (power), A25 GND (power), AC3 VCCINT (power), AC4 GND (power), AC23 GND (power), AC24 VCCINT (power), AC25 GND_CKLK3 (532) (power), AC26 VCC_CKLK3 (529) (power), AD1 VCCINT (power), AD2 VCCINT (power), AD3 GND (power), AD13 GND (power), AD24 GND (power), AD25 VCCINT (power), AD26 VCCINT (power), AE1 GND (power), AE2 GND (power), AE3 VCCINT (power), AE6 GND (power), AE8 VCCINT (power), AE18 GND_CKLK1 (508/509) (power), AE19 VCCINT (power), AE21 GND (power), AE22 GND_CKOUT1 (526) (power), AE24 VCCINT (power), AE25 GND (power), AE26 GND (power), AF2 GND (power), AF3 VCCINT (power), AF8 GND (power), AF14 GND (power), AF15 GND (power), AF18 VCC_CKLK1 (507) (power), AF19 GND (power), AF22 VCC_CKOUT1 (525) (power), AF24 VCCINT (power), AF25 GND (power), B1 GND (power), B2 GND (power), B3 VCCINT (power), B6 GND (power), B8 VCCINT (power), B19 VCCINT (power), B21 GND (power), B24 VCCINT (power), B25 GND (power), B26 GND (power), C1 VCCINT (power), C2 VCCINT (power), C3 GND (power), C13 GND (power), C24 GND (power), C25 VCCINT (power), C26 VCCINT (power), D3 VCCINT (power), D4 GND (power), D23 GND (power), D24 VCCINT (power), H8 GND (power), H19 GND (power), J9 GND (power), J18 GND (power), K10 GND (power), K11 VCCINT (power), K17 GND (power), L10 VCCINT (power), L11 GND (power), L13 GND (power), L15 VCCINT (power), L16 GND (power), M12 GND (power), M13 VCCINT (power), M15 GND (power), M16 VCCINT (power), N1 GND (power), N2 VCCINT (power), N4 GND (power), N11 VCC_CKLK2 (130) (power), N12 VCCINT (power), N13 GND (power), N14 GND (power), N25 GND_CKLK3 (531) (power), N26 GND (power), P1 GND (power), P2 GND (power), P3 GND (power), P10 VCC_CKLK4 (107) (power), P11 GND_CKLK2 (126/127) (power), P13 GND (power), P14 GND (power), P15 VCCINT (power), P23 GND (power), P24 VCCINT (power), P25 VCCINT (power), P26 GND (power), R10 GND_CKLK4 (108/109) (power), R11 VCCINT (power), R12 GND (power), R14 VCCINT (power), R15 GND (power), T11 GND (power), T12 VCCINT (power), T16 GND (power), T17 VCCINT (power), U9 VCCINT (power), U10 GND (power), U16 VCCINT (power), U17 GND (power), V6 GND_CKOUT2 (133) (power), V7 VCC_CKOUT2 (132) (power), V9 GND (power), V18 GND (power), W8 GND (power), W19 GND (power)